# Altium schematic symbol library SnapEDAsch.SchLib: 1 symbol
Pins are listed as number, name and electrical type; pins without a type are passive.

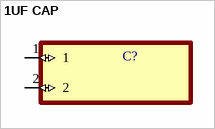
[diagram p0: symbol 1UF CAP]

## 1UF CAP
designator C?, comment GRM188R60J105KA01D  (value not drawn)
SMD Capacitor X5R(EIA) with Capacitance: 1.0uF Tol. 10%. Rated Voltage: 6.3Vdc; MF: Murata Electronics; DigiKey-Purchase-URL: https://snapeda.com/shop?store=DigiKey&id=341022; SnapEDA_Link: https://www.snapeda.com/parts/GRM188R60J105KA01D/Murata%20Electronics%20North%20America/view-part/341022/?ref=snap; MP: GRM188R60J105KA01D; Value: *; Package: 1608 Murata; Digi-Key_Part_Number: 490-1550-1-ND
footprint CAPC1608X90N
pins: 1 (io), 2 (io)